# EAGLE library part CONN,2X10HDR (library QuantumOptics)
Header, 2x10
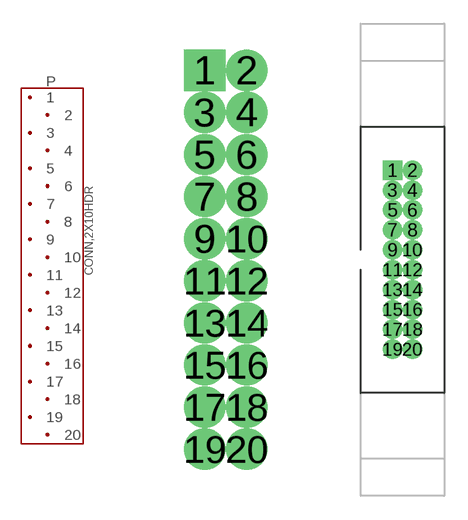
[diagram p208: symbol with the pads of CONN,2X10(50MIL); footprints CONN,2X10(50MIL), CONN,2X10(50MIL)W/EJECT]

Designator prefix P

## CONN,2X10HDR-50MIL  [CONN,2X10(50MIL)]
1  1
2  2
3  3
4  4
5  5
6  6
7  7
8  8
9  9
10  10
11  11
12  12
13  13
14  14
15  15
16  16
17  17
18  18
19  19
20  20

## CONN,2X10HDR-50MIL_EJECT  [CONN,2X10(50MIL)W/EJECT]
Pads as for CONN,2X10(50MIL)

## Footprint CONN,2X10(50MIL) (pad centres in mm)
Connector, 2 rows of 10 pins, straight or right angle, such as Sullins GRPB102VWVN-RC.
drill 0.737 pad 1.09 square: 1 0,0
drill 0.737 pad 1.09: 2 1.27,0; 3 0,-1.27; 4 1.27,-1.27; 5 0,-2.54; 6 1.27,-2.54; 7 0,-3.81; 8 1.27,-3.81; 9 0,-5.08; 10 1.27,-5.08; 11 0,-6.35; 12 1.27,-6.35; 13 0,-7.62; 14 1.27,-7.62; 15 0,-8.89; 16 1.27,-8.89; 17 0,-10.16; 18 1.27,-10.16; 19 0,-11.43; 20 1.27,-11.43

## Footprint CONN,2X10(50MIL)W/EJECT (pad centres in mm)
Connector, 2 rows of 10 pins, straight through with eject tabs, such as 3M 45220-620230.
drill 0.737 pad 1.09 square: 1 0,0
drill 0.737 pad 1.09: 2 1.27,0; 3 0,-1.27; 4 1.27,-1.27; 5 0,-2.54; 6 1.27,-2.54; 7 0,-3.81; 8 1.27,-3.81; 9 0,-5.08; 10 1.27,-5.08; 11 0,-6.35; 12 1.27,-6.35; 13 0,-7.62; 14 1.27,-7.62; 15 0,-8.89; 16 1.27,-8.89; 17 0,-10.16; 18 1.27,-10.16; 19 0,-11.43; 20 1.27,-11.43